# Altium integrated library WE-PDF_rev15a.intlib: 27 symbols
Pins are listed as number, name and electrical type; pins without a type are passive.

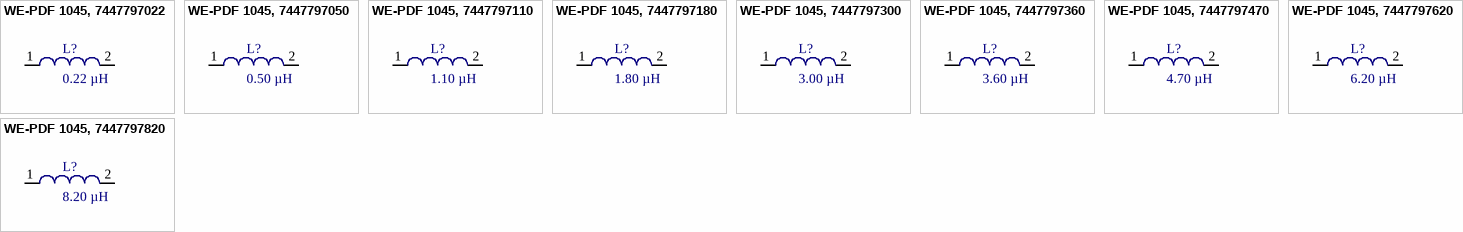
[diagram p0: symbols WE-PDF 1045, 7447797022 to WE-PDF 1045, 7447797820]

## WE-PDF 1045, 7447797022
designator L?, comment 0.22 µH
SMD Power Inductor WE-PDF, L=0.22 µH; partNo: 7447797022; Manufacturer: Würth Elektronik eiSos GmbH; Inductance: 0.22 µH; ComponentLink1Description: Manufacturer; ComponentLink1URL: http://www.we-online.de; Created by: Christin Zierenner; Created Date: August 2009; ComponentLink2Description: Datasheet; ComponentLink2URL: http://www.we-online.de/katalog/media/pdf/7447797022.pdf
footprint WE-PDF_1045 (SMD Inductor, 2-Leads, Body 10,2x10,2mm)
pins: 1, 2

## WE-PDF 1045, 7447797050
designator L?, comment 0.50 µH
SMD Power Inductor WE-PDF, L=0.50 µH; partNo: 7447797050; Manufacturer: Würth Elektronik eiSos GmbH; Inductance: 0.50 µH; ComponentLink1Description: Manufacturer; ComponentLink1URL: http://www.we-online.de; Created by: Christin Zierenner; Created Date: August 2009; ComponentLink2Description: Datasheet; ComponentLink2URL: http://www.we-online.de/katalog/media/pdf/7447797050.pdf
footprint WE-PDF_1045 (SMD Inductor, 2-Leads, Body 10,2x10,2mm)
pins: 1, 2

## WE-PDF 1045, 7447797110
designator L?, comment 1.10 µH
SMD Power Inductor WE-PDF, L=1.10 µH; partNo: 7447797110; Manufacturer: Würth Elektronik eiSos GmbH; Inductance: 1.10 µH; ComponentLink1Description: Manufacturer; ComponentLink1URL: http://www.we-online.de; Created by: Christin Zierenner; Created Date: August 2009; ComponentLink2Description: Datasheet; ComponentLink2URL: http://www.we-online.de/katalog/media/pdf/7447797110.pdf
footprint WE-PDF_1045 (SMD Inductor, 2-Leads, Body 10,2x10,2mm)
pins: 1, 2

## WE-PDF 1045, 7447797180
designator L?, comment 1.80 µH
SMD Power Inductor WE-PDF, L=1.80 µH; partNo: 7447797180; Manufacturer: Würth Elektronik eiSos GmbH; Inductance: 1.80 µH; ComponentLink1Description: Manufacturer; ComponentLink1URL: http://www.we-online.de; Created by: Christin Zierenner; Created Date: August 2009; ComponentLink2Description: Datasheet; ComponentLink2URL: http://www.we-online.de/katalog/media/pdf/7447797180.pdf
footprint WE-PDF_1045 (SMD Inductor, 2-Leads, Body 10,2x10,2mm)
pins: 1, 2

## WE-PDF 1045, 7447797300
designator L?, comment 3.00 µH
SMD Power Inductor WE-PDF, L=3.00 µH; partNo: 7447797300; Manufacturer: Würth Elektronik eiSos GmbH; Inductance: 3.00 µH; ComponentLink1Description: Manufacturer; ComponentLink1URL: http://www.we-online.de; Created by: Christin Zierenner; Created Date: August 2009; ComponentLink2Description: Datasheet; ComponentLink2URL: http://www.we-online.de/katalog/media/pdf/7447797300.pdf
footprint WE-PDF_1045 (SMD Inductor, 2-Leads, Body 10,2x10,2mm)
pins: 1, 2

## WE-PDF 1045, 7447797360
designator L?, comment 3.60 µH
SMD Power Inductor WE-PDF, L=3.60 µH; partNo: 7447797360; Manufacturer: Würth Elektronik eiSos GmbH; Inductance: 3.60 µH; ComponentLink1Description: Manufacturer; ComponentLink1URL: http://www.we-online.de; Created by: Christin Zierenner; Created Date: August 2009; ComponentLink2Description: Datasheet; ComponentLink2URL: http://www.we-online.de/katalog/media/pdf/7447797360.pdf
footprint WE-PDF_1045 (SMD Inductor, 2-Leads, Body 10,2x10,2mm)
pins: 1, 2

## WE-PDF 1045, 7447797470
designator L?, comment 4.70 µH
SMD Power Inductor WE-PDF, L=4.70 µH; partNo: 7447797470; Manufacturer: Würth Elektronik eiSos GmbH; Inductance: 4.70 µH; ComponentLink1Description: Manufacturer; ComponentLink1URL: http://www.we-online.de; Created by: Christin Zierenner; Created Date: August 2009; ComponentLink2Description: Datasheet; ComponentLink2URL: http://www.we-online.de/katalog/media/pdf/7447797470.pdf
footprint WE-PDF_1045 (SMD Inductor, 2-Leads, Body 10,2x10,2mm)
pins: 1, 2

## WE-PDF 1045, 7447797620
designator L?, comment 6.20 µH
SMD Power Inductor WE-PDF, L=6.20 µH; partNo: 7447797620; Manufacturer: Würth Elektronik eiSos GmbH; Inductance: 6.20 µH; ComponentLink1Description: Manufacturer; ComponentLink1URL: http://www.we-online.de; Created by: Christin Zierenner; Created Date: August 2009; ComponentLink2Description: Datasheet; ComponentLink2URL: http://www.we-online.de/katalog/media/pdf/7447797620.pdf
footprint WE-PDF_1045 (SMD Inductor, 2-Leads, Body 10,2x10,2mm)
pins: 1, 2

## WE-PDF 1045, 7447797820
designator L?, comment 8.20 µH
SMD Power Inductor WE-PDF, L=8.20 µH; partNo: 7447797820; Manufacturer: Würth Elektronik eiSos GmbH; Inductance: 8.20 µH; ComponentLink1Description: Manufacturer; ComponentLink1URL: http://www.we-online.de; Created by: Christin Zierenner; Created Date: August 2009; ComponentLink2Description: Datasheet; ComponentLink2URL: http://www.we-online.de/katalog/media/pdf/7447797820.pdf
footprint WE-PDF_1045 (SMD Inductor, 2-Leads, Body 10,2x10,2mm)
pins: 1, 2


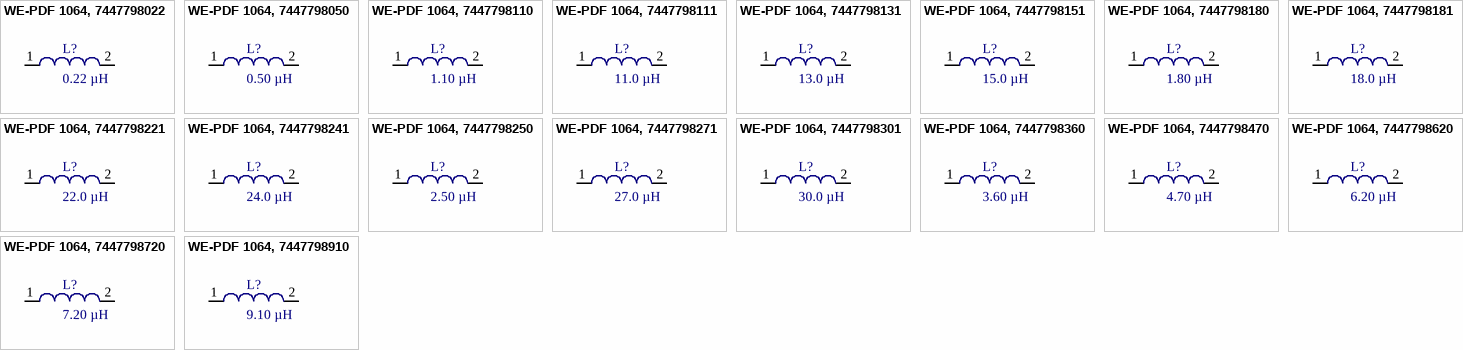
[diagram p1: symbols WE-PDF 1064, 7447798022 to WE-PDF 1064, 7447798910]

## WE-PDF 1064, 7447798022
designator L?, comment 0.22 µH
SMD Power Inductor WE-PDF, L=0.22 µH; partNo: 7447798022; Manufacturer: Würth Elektronik eiSos GmbH; Inductance: 0.22 µH; ComponentLink1Description: Manufacturer; ComponentLink1URL: http://www.we-online.de; Created by: Christin Zierenner; Created Date: March 2010; ComponentLink2Description: Datasheet; ComponentLink2URL: http://www.we-online.de/katalog/media/pdf/7447798022.pdf
footprint WE-PDF_1064 (SMD Inductor, 2-Leads, Body 10,2x10,2mm)
pins: 1, 2

## WE-PDF 1064, 7447798050
designator L?, comment 0.50 µH
SMD Power Inductor WE-PDF, L=0.50 µH; partNo: 7447798050; Manufacturer: Würth Elektronik eiSos GmbH; Inductance: 0.50 µH; ComponentLink1Description: Manufacturer; ComponentLink1URL: http://www.we-online.de; Created by: Christin Zierenner; Created Date: March 2010; ComponentLink2Description: Datasheet; ComponentLink2URL: http://www.we-online.de/katalog/media/pdf/7447798050.pdf
footprint WE-PDF_1064 (SMD Inductor, 2-Leads, Body 10,2x10,2mm)
pins: 1, 2

## WE-PDF 1064, 7447798110
designator L?, comment 1.10 µH
SMD Power Inductor WE-PDF, L=1.10 µH; partNo: 7447798110; Manufacturer: Würth Elektronik eiSos GmbH; Inductance: 1.10 µH; ComponentLink1Description: Manufacturer; ComponentLink1URL: http://www.we-online.de; Created by: Christin Zierenner; Created Date: March 2010; ComponentLink2Description: Datasheet; ComponentLink2URL: http://www.we-online.de/katalog/media/pdf/7447798110.pdf
footprint WE-PDF_1064 (SMD Inductor, 2-Leads, Body 10,2x10,2mm)
pins: 1, 2

## WE-PDF 1064, 7447798111
designator L?, comment 11.0 µH
SMD Power Inductor WE-PDF, L=11.0 µH; partNo: 7447798111; Manufacturer: Würth Elektronik eiSos GmbH; Inductance: 11.0 µH; ComponentLink1Description: Manufacturer; ComponentLink1URL: http://www.we-online.de; Created by: Christin Zierenner; Created Date: March 2010; ComponentLink2Description: Datasheet; ComponentLink2URL: http://www.we-online.de/katalog/media/pdf/7447798111.pdf
footprint WE-PDF_1064 (SMD Inductor, 2-Leads, Body 10,2x10,2mm)
pins: 1, 2

## WE-PDF 1064, 7447798131
designator L?, comment 13.0 µH
SMD Power Inductor WE-PDF, L=13.0 µH; partNo: 7447798131; Manufacturer: Würth Elektronik eiSos GmbH; Inductance: 13.0 µH; ComponentLink1Description: Manufacturer; ComponentLink1URL: http://www.we-online.de; Created by: Christin Zierenner; Created Date: March 2010; ComponentLink2Description: Datasheet; ComponentLink2URL: http://www.we-online.de/katalog/media/pdf/7447798131.pdf
footprint WE-PDF_1064 (SMD Inductor, 2-Leads, Body 10,2x10,2mm)
pins: 1, 2

## WE-PDF 1064, 7447798151
designator L?, comment 15.0 µH
SMD Power Inductor WE-PDF, L=15.0 µH; partNo: 7447798151; Manufacturer: Würth Elektronik eiSos GmbH; Inductance: 15.0 µH; ComponentLink1Description: Manufacturer; ComponentLink1URL: http://www.we-online.de; Created by: Christin Zierenner; Created Date: March 2010; ComponentLink2Description: Datasheet; ComponentLink2URL: http://www.we-online.de/katalog/media/pdf/7447798151.pdf
footprint WE-PDF_1064 (SMD Inductor, 2-Leads, Body 10,2x10,2mm)
pins: 1, 2

## WE-PDF 1064, 7447798180
designator L?, comment 1.80 µH
SMD Power Inductor WE-PDF, L=1.80 µH; partNo: 7447798180; Manufacturer: Würth Elektronik eiSos GmbH; Inductance: 1.80 µH; ComponentLink1Description: Manufacturer; ComponentLink1URL: http://www.we-online.de; Created by: Christin Zierenner; Created Date: March 2010; ComponentLink2Description: Datasheet; ComponentLink2URL: http://www.we-online.de/katalog/media/pdf/7447798180.pdf
footprint WE-PDF_1064 (SMD Inductor, 2-Leads, Body 10,2x10,2mm)
pins: 1, 2

## WE-PDF 1064, 7447798181
designator L?, comment 18.0 µH
SMD Power Inductor WE-PDF, L=18.0 µH; partNo: 7447798181; Manufacturer: Würth Elektronik eiSos GmbH; Inductance: 18.0 µH; ComponentLink1Description: Manufacturer; ComponentLink1URL: http://www.we-online.de; Created by: Christin Zierenner; Created Date: March 2010; ComponentLink2Description: Datasheet; ComponentLink2URL: http://www.we-online.de/katalog/media/pdf/7447798181.pdf
footprint WE-PDF_1064 (SMD Inductor, 2-Leads, Body 10,2x10,2mm)
pins: 1, 2

## WE-PDF 1064, 7447798221
designator L?, comment 22.0 µH
SMD Power Inductor WE-PDF, L=22.0 µH; partNo: 7447798221; Manufacturer: Würth Elektronik eiSos GmbH; Inductance: 22.0 µH; ComponentLink1Description: Manufacturer; ComponentLink1URL: http://www.we-online.de; Created by: Christin Zierenner; Created Date: March 2010; ComponentLink2Description: Datasheet; ComponentLink2URL: http://www.we-online.de/katalog/media/pdf/7447798221.pdf
footprint WE-PDF_1064 (SMD Inductor, 2-Leads, Body 10,2x10,2mm)
pins: 1, 2

## WE-PDF 1064, 7447798241
designator L?, comment 24.0 µH
SMD Power Inductor WE-PDF, L=24.0 µH; partNo: 7447798241; Manufacturer: Würth Elektronik eiSos GmbH; Inductance: 24.0 µH; ComponentLink1Description: Manufacturer; ComponentLink1URL: http://www.we-online.de; Created by: Christin Zierenner; Created Date: March 2010; ComponentLink2Description: Datasheet; ComponentLink2URL: http://www.we-online.de/katalog/media/pdf/7447798241.pdf
footprint WE-PDF_1064 (SMD Inductor, 2-Leads, Body 10,2x10,2mm)
pins: 1, 2

## WE-PDF 1064, 7447798250
designator L?, comment 2.50 µH
SMD Power Inductor WE-PDF, L=2.50 µH; partNo: 7447798250; Manufacturer: Würth Elektronik eiSos GmbH; Inductance: 2.50 µH; ComponentLink1Description: Manufacturer; ComponentLink1URL: http://www.we-online.de; Created by: Christin Zierenner; Created Date: March 2010; ComponentLink2Description: Datasheet; ComponentLink2URL: http://www.we-online.de/katalog/media/pdf/7447798250.pdf
footprint WE-PDF_1064 (SMD Inductor, 2-Leads, Body 10,2x10,2mm)
pins: 1, 2

## WE-PDF 1064, 7447798271
designator L?, comment 27.0 µH
SMD Power Inductor WE-PDF, L=27.0 µH; partNo: 7447798271; Manufacturer: Würth Elektronik eiSos GmbH; Inductance: 27.0 µH; ComponentLink1Description: Manufacturer; ComponentLink1URL: http://www.we-online.de; Created by: Christin Zierenner; Created Date: March 2010; ComponentLink2Description: Datasheet; ComponentLink2URL: http://www.we-online.de/katalog/media/pdf/7447798271.pdf
footprint WE-PDF_1064 (SMD Inductor, 2-Leads, Body 10,2x10,2mm)
pins: 1, 2

## WE-PDF 1064, 7447798301
designator L?, comment 30.0 µH
SMD Power Inductor WE-PDF, L=30.0 µH; partNo: 7447798301; Manufacturer: Würth Elektronik eiSos GmbH; Inductance: 30.0 µH; ComponentLink1Description: Manufacturer; ComponentLink1URL: http://www.we-online.de; Created by: Christin Zierenner; Created Date: March 2010; ComponentLink2Description: Datasheet; ComponentLink2URL: http://www.we-online.de/katalog/media/pdf/7447798301.pdf
footprint WE-PDF_1064 (SMD Inductor, 2-Leads, Body 10,2x10,2mm)
pins: 1, 2

## WE-PDF 1064, 7447798360
designator L?, comment 3.60 µH
SMD Power Inductor WE-PDF, L=3.60 µH; partNo: 7447798360; Manufacturer: Würth Elektronik eiSos GmbH; Inductance: 3.60 µH; ComponentLink1Description: Manufacturer; ComponentLink1URL: http://www.we-online.de; Created by: Christin Zierenner; Created Date: March 2010; ComponentLink2Description: Datasheet; ComponentLink2URL: http://www.we-online.de/katalog/media/pdf/7447798360.pdf
footprint WE-PDF_1064 (SMD Inductor, 2-Leads, Body 10,2x10,2mm)
pins: 1, 2

## WE-PDF 1064, 7447798470
designator L?, comment 4.70 µH
SMD Power Inductor WE-PDF, L=4.70 µH; partNo: 7447798470; Manufacturer: Würth Elektronik eiSos GmbH; Inductance: 4.70 µH; ComponentLink1Description: Manufacturer; ComponentLink1URL: http://www.we-online.de; Created by: Christin Zierenner; Created Date: March 2010; ComponentLink2Description: Datasheet; ComponentLink2URL: http://www.we-online.de/katalog/media/pdf/7447798470.pdf
footprint WE-PDF_1064 (SMD Inductor, 2-Leads, Body 10,2x10,2mm)
pins: 1, 2

## WE-PDF 1064, 7447798620
designator L?, comment 6.20 µH
SMD Power Inductor WE-PDF, L=6.20 µH; partNo: 7447798620; Manufacturer: Würth Elektronik eiSos GmbH; Inductance: 6.20 µH; ComponentLink1Description: Manufacturer; ComponentLink1URL: http://www.we-online.de; Created by: Christin Zierenner; Created Date: March 2010; ComponentLink2Description: Datasheet; ComponentLink2URL: http://www.we-online.de/katalog/media/pdf/7447798620.pdf
footprint WE-PDF_1064 (SMD Inductor, 2-Leads, Body 10,2x10,2mm)
pins: 1, 2

## WE-PDF 1064, 7447798720
designator L?, comment 7.20 µH
SMD Power Inductor WE-PDF, L=7.20 µH; partNo: 7447798720; Manufacturer: Würth Elektronik eiSos GmbH; Inductance: 7.20 µH; ComponentLink1Description: Manufacturer; ComponentLink1URL: http://www.we-online.de; Created by: Christin Zierenner; Created Date: March 2010; ComponentLink2Description: Datasheet; ComponentLink2URL: http://www.we-online.de/katalog/media/pdf/7447798720.pdf
footprint WE-PDF_1064 (SMD Inductor, 2-Leads, Body 10,2x10,2mm)
pins: 1, 2

## WE-PDF 1064, 7447798910
designator L?, comment 9.10 µH
SMD Power Inductor WE-PDF, L=9.10 µH; partNo: 7447798910; Manufacturer: Würth Elektronik eiSos GmbH; Inductance: 9.10 µH; ComponentLink1Description: Manufacturer; ComponentLink1URL: http://www.we-online.de; Created by: Christin Zierenner; Created Date: March 2010; ComponentLink2Description: Datasheet; ComponentLink2URL: http://www.we-online.de/katalog/media/pdf/7447798910.pdf
footprint WE-PDF_1064 (SMD Inductor, 2-Leads, Body 10,2x10,2mm)
pins: 1, 2